# Altium footprint library BSC028N06NSATMA1.PcbLib: 1 footprints
Each footprint in its own frame and in the unit in brackets; x right, y up, seen from the top. Pads: shape width x height; smd on the part's side, far side on the other; paste and mask are expansions set on the pad; w line width, h text height; cw(c..) or ccw(c..) is an arc to the next point about the centre after c.
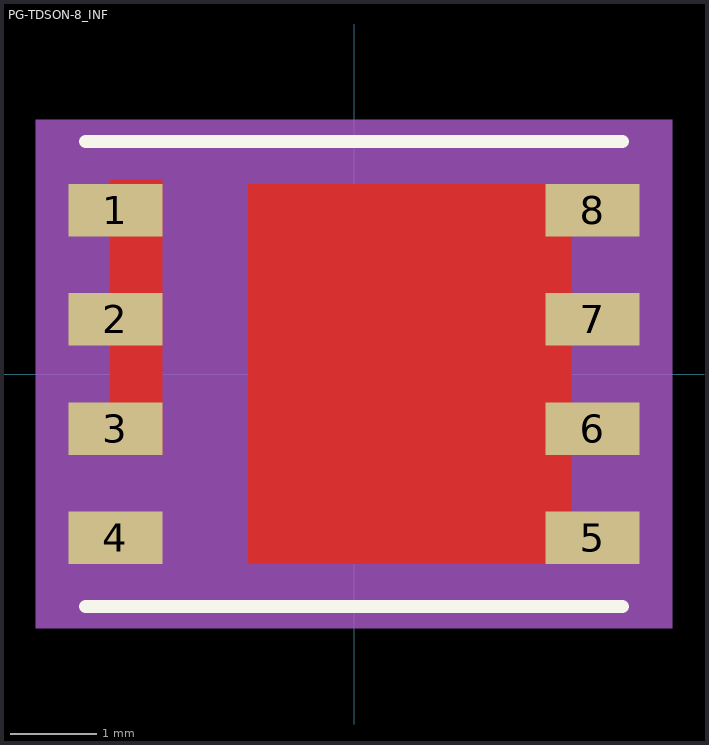
[diagram p0: the footprint, top view; thin cyan lines are the x and y axes]

## PG-TDSON-8_INF [mil]
pads (8):
  rect 43x24 smd paste+0 mask+0: 1(-109.25,75) 2(-109.25,25) 3(-109.25,-25) 4(-109.25,-75) 5(109.25,-75) 6(109.25,-25) 7(109.25,25) 8(109.25,75)
Top Layer:
  region: -111.75,-37 -111.75,89 -87.75,89 -87.75,-37
  region: -48.41,-87 -48.41,87 99.59,87 99.59,-87
Top Overlay:
  lines w6: -123,-106.5 123,-106.5 ; -123,106.5 123,106.5
Top Paste:
  region: -111.75,-37 -111.75,89 -87.75,89 -87.75,-37
  region: -48.41,-87 -48.41,87 99.59,87 99.59,-87
  region: 21.65,83.06 -44.47,83.06 -44.47,32.94 21.65,32.94
  region: 21.65,25.06 -44.47,25.06 -44.47,-25.06 21.65,-25.06
  region: 21.65,-32.94 -44.47,-32.94 -44.47,-83.06 21.65,-83.06
  region: 95.65,83.06 29.53,83.06 29.53,32.94 95.65,32.94
  region: 95.65,25.06 29.53,25.06 29.53,-25.06 95.65,-25.06
  region: 95.65,-32.94 29.53,-32.94 29.53,-83.06 95.65,-83.06
  region: -91.69,85.06 -107.81,85.06 -107.81,29.94 -91.69,29.94
  region: -91.69,22.06 -107.81,22.06 -107.81,-33.06 -91.69,-33.06
  region: -91.69,85.06 -107.81,85.06 -107.81,29.94 -91.69,29.94
  region: -91.69,22.06 -107.81,22.06 -107.81,-33.06 -91.69,-33.06
Top Solder:
  region: -111.75,-37 -111.75,89 -87.75,89 -87.75,-37
  region: -48.41,-87 -48.41,87 99.59,87 99.59,-87
Mechanical 5:
  region: 145.75,-116.5 -145.75,-116.5 -145.75,116.5 145.75,116.5
Mechanical 13:
  circle w0: c-87.75,75 r0
  lines w0: -12,101.5 ccw(c0,101.5) 12,101.5
  lines w1: -118,-101.5 118,-101.5 118,101.5 -118,101.5 -118,-101.5
Mechanical 15:
  region: -128,-97 -140.75,-97 -140.75,97 -128,97 -128,111.5 128,111.5 128,97 140.75,97 140.75,-97 128,-97 128,-111.5 -128,-111.5
  lines w6: -140.75,-97 -140.75,97 -128,97 -128,111.5 128,111.5 128,97 140.75,97 140.75,-97 128,-97 128,-111.5 -128,-111.5 -128,-97 -140.75,-97
3D body: height 10, standoff 0, extent 0,0 10,10